# EAGLE library part MCP4921 (library _mtvl_ic)
12-Bit Voltage Output SPI DAC with external VREF
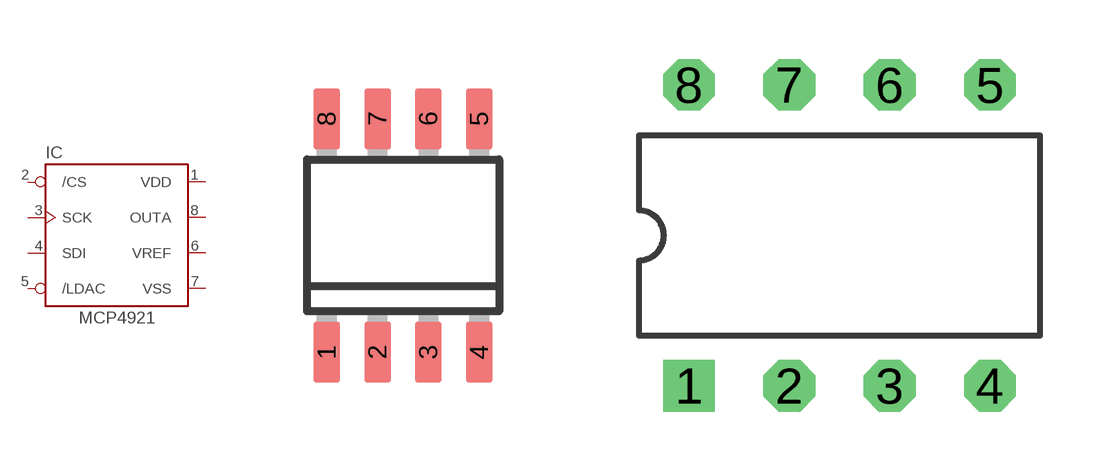
[diagram p62: symbol with the pads of SO8; footprints SO8, DIL08_]

Designator prefix IC

## MCP4921-E/SN  [SO8]
1  VDD  sup
2  /CS  in
3  SCK  in
4  SDI  in
5  /LDAC  in
6  VREF  in
7  VSS  sup
8  OUTA  out

## MCP4921-E/P  [DIL08_]
Pads as for SO8

## Footprint SO8 (pad centres in mm)
SMALL OUTLINE INTEGRATED CIRCUIT
smd 0.66 x 1.524: 1 -1.905,-2.921; 2 -0.635,-2.921; 3 0.635,-2.921; 4 1.905,-2.921; 5 1.905,2.921; 6 0.635,2.921; 7 -0.635,2.921; 8 -1.905,2.921

## Footprint DIL08_ (pad centres in mm)
Dual In Line package type P
drill 0.8 square: 1 -3.81,-3.81
drill 0.8 octagon: 2 -1.27,-3.81; 3 1.27,-3.81; 4 3.81,-3.81; 5 3.81,3.81; 6 1.27,3.81; 7 -1.27,3.81; 8 -3.81,3.81